# Altium schematic symbol library Schlib1.SchLib: 3 symbols
Pins are listed as number, name and electrical type; pins without a type are passive.

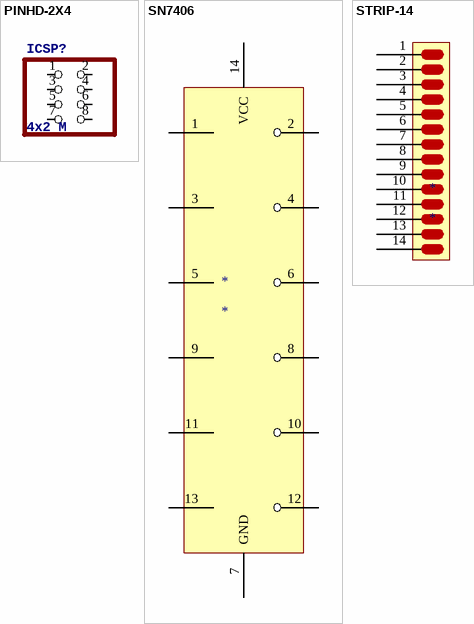
[diagram p0: symbols PINHD-2X4 to STRIP-14]

## PINHD-2X4
designator ICSP?, comment 4x2 M
PartNo: M20-9980345
footprint 2X04
pins: 1, 2, 3, 4, 5, 6, 7, 8

## SN7406
designator *
footprint DIP14
pins: 1, 2, 3, 4, 5, 6, 7 GND, 8, 9, 10, 11, 12, 13, 14 VCC

## STRIP-14
designator *
footprint STRIP-14
pins: 1, 2, 3, 4, 5, 6, 7, 8, 9, 10, 11, 12, 13, 14